# Altium schematic symbol library MOSFET_N-channel_5pin.SchLib: 1 symbol
Pins are listed as number, name and electrical type; pins without a type are passive.

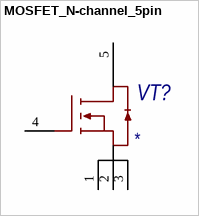
[diagram p0: symbol MOSFET_N-channel_5pin]

## MOSFET_N-channel_5pin
designator VT?
pins: 1, 2, 3, 4, 5